# Altium schematic symbol library RT9742GGJ5.SchLib: 1 symbol
Pins are listed as number, name and electrical type; pins without a type are passive.

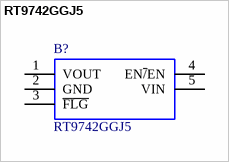
[diagram p0: symbol RT9742GGJ5]

## RT9742GGJ5
designator B?
POWER LOAD SWITCH, HIGH SIDE, TSOT-23-5; Power Load Switch Type:High Side; Input Voltage:6V; Current Limit:1.1A; On State Resistance:0.07ohm; Distribution Switch Case Style:TSOT-23; No. of Pins:5Pins; Thermal Protection:Yes; On / RoHS Compliant: Yes; Manufacturer_Name: RICHTEK; Geometry.Height: 1mm; Manufacturer_Part_Number: RT9742GGJ5; Mouser Part Number: 835-RT9742GGJ5; Mouser Price/Stock: https://www.mouser.co.uk/ProductDetail/Richtek/RT9742GGJ5?qs=amGC7iS6iy%2FZU2tAnLZxIA%3D%3D; Arrow Part Number: *; Arrow Price/Stock: *; Datasheet Link: https://componentsearchengine.com/Datasheets/2/RT9742GGJ5.pdf
footprint SOT94P280X100-5N
pins: 1 VOUT, 2 GND, 3 ~{FLG}, 4 EN~{/}EN, 5 VIN